# Altium footprint library 610 0xx 243 021.PcbLib: 17 footprints (part 1 of 2)
Each footprint in its own frame and in the unit in brackets; x right, y up, seen from the top. Pads: shape width x height; smd on the part's side, far side on the other; paste and mask are expansions set on the pad; w line width, h text height; cw(c..) or ccw(c..) is an arc to the next point about the centre after c.
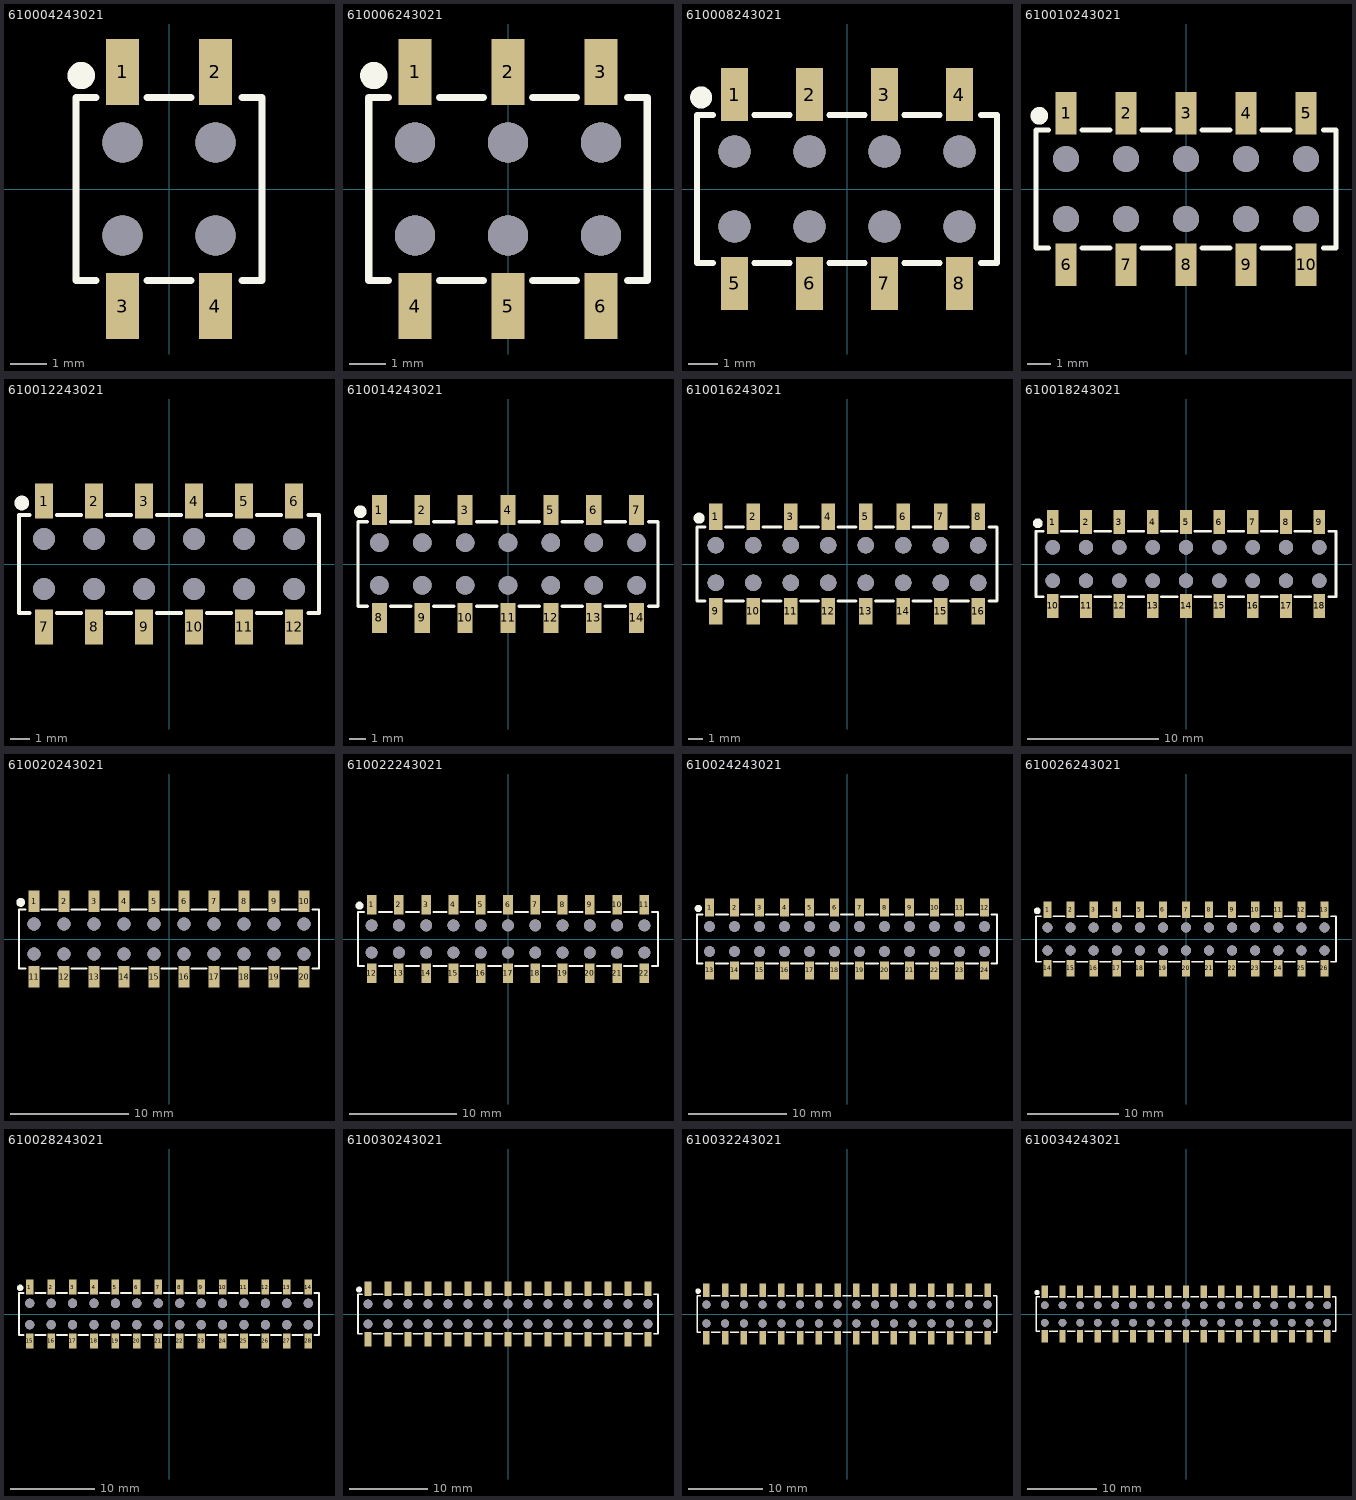
[diagram p0: the footprints below, top view; thin cyan lines are the x and y axes]

## 610004243021 [mm] "04p dual row straight 3,7mm height"
height 3.7
pads (8):
  rect 0.9x1.8 smd: 1(-1.27,3.2) 2(1.27,3.2) 3(-1.27,-3.2) 4(1.27,-3.2)
  round 1.1 hole 1.1 unplated: ""(-1.27,-1.27) ""(-1.27,1.27) ""(1.27,-1.27) ""(1.27,1.27)
Top Overlay:
  circle w0.5: c-2.4,3.1 r0.122
  lines w0.2: -2,-2.5 -2.54,-2.5 -2.54,2.5 -2,2.5 ; -0.6,-2.5 0.6,-2.5 ; -0.6,2.5 0.6,2.5 ; 2,-2.5 2.54,-2.5 2.54,2.5 2,2.5
3D body "610004243021.stp": height 3.73, standoff 0.03, extent -2.54,-3.563 2.54,3.643

## 610006243021 [mm] "06p dual row straight 3,7mm height"
height 3.7
pads (12):
  rect 0.9x1.8 smd: 1(-2.54,3.2) 2(0,3.2) 3(2.54,3.2) 4(-2.54,-3.2) 5(0,-3.2) 6(2.54,-3.2)
  round 1.1 hole 1.1 unplated: ""(-2.54,-1.27) ""(-2.54,1.27) ""(0,-1.27) ""(0,1.27) ""(2.54,-1.27) ""(2.54,1.27)
Top Overlay:
  circle w0.5: c-3.67,3.1 r0.122
  lines w0.2: -3.27,-2.5 -3.81,-2.5 -3.81,2.5 -3.27,2.5 ; -1.87,-2.5 -0.67,-2.5 ; -1.87,2.5 -0.67,2.5 ; 0.67,-2.5 1.87,-2.5 ; 0.67,2.5 1.87,2.5 ; 3.27,-2.5 3.81,-2.5 3.81,2.5 3.27,2.5
3D body "610006243021.stp": height 3.73, standoff 0.03, extent -3.81,-3.603 3.81,3.603

## 610008243021 [mm] "08p dual row straight 3,7mm height"
height 3.7
pads (16):
  rect 0.9x1.8 smd: 1(-3.81,3.2) 2(-1.27,3.2) 3(1.27,3.2) 4(3.81,3.2) 5(-3.81,-3.2) 6(-1.27,-3.2) 7(1.27,-3.2) 8(3.81,-3.2)
  round 1.1 hole 1.1 unplated: ""(-3.81,-1.27) ""(-3.81,1.27) ""(-1.27,-1.27) ""(-1.27,1.27) ""(1.27,-1.27) ""(1.27,1.27) ""(3.81,-1.27) ""(3.81,1.27)
Top Overlay:
  circle w0.5: c-4.94,3.1 r0.122
  lines w0.2: -4.54,-2.5 -5.08,-2.5 -5.08,2.5 -4.54,2.5 ; -3.14,-2.5 -1.94,-2.5 ; -3.14,2.5 -1.94,2.5 ; -0.6,-2.5 0.6,-2.5 ; -0.6,2.5 0.6,2.5 ; 1.94,-2.5 3.14,-2.5 ; 1.94,2.5 3.14,2.5 ; 4.54,-2.5 5.08,-2.5 5.08,2.5 4.54,2.5
3D body "610008243021.stp": height 3.73, standoff 0.03, extent -5.08,-3.603 5.08,3.603

## 610010243021 [mm] "10p dual row straight 3,7mm height"
height 3.7
pads (20):
  rect 0.9x1.8 smd: 1(-5.08,3.2) 2(-2.54,3.2) 3(0,3.2) 4(2.54,3.2) 5(5.08,3.2) 6(-5.08,-3.2) 7(-2.54,-3.2) 8(0,-3.2) 9(2.54,-3.2) 10(5.08,-3.2)
  round 1.1 hole 1.1 unplated: ""(-5.08,-1.27) ""(-5.08,1.27) ""(-2.54,-1.27) ""(-2.54,1.27) ""(0,-1.27) ""(0,1.27) ""(2.54,-1.27) ""(2.54,1.27) ""(5.08,-1.27) ""(5.08,1.27)
Top Overlay:
  circle w0.5: c-6.21,3.1 r0.122
  lines w0.2: -5.81,-2.5 -6.35,-2.5 -6.35,2.5 -5.81,2.5 ; -4.41,-2.5 -3.21,-2.5 ; -4.41,2.5 -3.21,2.5 ; -1.87,-2.5 -0.67,-2.5 ; -1.87,2.5 -0.67,2.5 ; 0.67,-2.5 1.87,-2.5 ; 0.67,2.5 1.87,2.5 ; 3.21,-2.5 4.41,-2.5 ; 3.21,2.5 4.41,2.5 ; 5.81,-2.5 6.35,-2.5 6.35,2.5 5.81,2.5
3D body "610010243021.stp": height 3.73, standoff 0.03, extent -6.35,-3.603 6.35,3.603

## 610012243021 [mm] "12p dual row straight 3,7mm height"
height 3.7
pads (24):
  rect 0.9x1.8 smd: 1(-6.35,3.2) 2(-3.81,3.2) 3(-1.27,3.2) 4(1.27,3.2) 5(3.81,3.2) 6(6.35,3.2) 7(-6.35,-3.2) 8(-3.81,-3.2) 9(-1.27,-3.2) 10(1.27,-3.2) 11(3.81,-3.2) 12(6.35,-3.2)
  round 1.1 hole 1.1 unplated: ""(-6.35,-1.27) ""(-6.35,1.27) ""(-3.81,-1.27) ""(-3.81,1.27) ""(-1.27,-1.27) ""(-1.27,1.27) ""(1.27,-1.27) ""(1.27,1.27) ""(3.81,-1.27) ""(3.81,1.27) ""(6.35,-1.27) ""(6.35,1.27)
Top Overlay:
  circle w0.5: c-7.48,3.1 r0.122
  lines w0.2: -7.08,-2.5 -7.62,-2.5 -7.62,2.5 -7.08,2.5 ; -5.68,-2.5 -4.48,-2.5 ; -5.68,2.5 -4.48,2.5 ; -3.14,-2.5 -1.94,-2.5 ; -3.14,2.5 -1.94,2.5 ; -0.6,-2.5 0.6,-2.5 ; -0.6,2.5 0.6,2.5 ; 1.94,-2.5 3.14,-2.5 ; 1.94,2.5 3.14,2.5 ; 4.48,-2.5 5.68,-2.5 ; 4.48,2.5 5.68,2.5 ; 7.08,-2.5 7.62,-2.5 7.62,2.5 7.08,2.5
3D body "610012243021.stp": height 3.73, standoff 0.03, extent -7.62,-3.603 7.62,3.603

## 610014243021 [mm] "14p dual row straight 3,7mm height"
height 3.7
pads (28):
  rect 0.9x1.8 smd: 1(-7.62,3.2) 2(-5.08,3.2) 3(-2.54,3.2) 4(0,3.2) 5(2.54,3.2) 6(5.08,3.2) 7(7.62,3.2) 8(-7.62,-3.2) 9(-5.08,-3.2) 10(-2.54,-3.2) 11(0,-3.2) 12(2.54,-3.2) 13(5.08,-3.2) 14(7.62,-3.2)
  round 1.1 hole 1.1 unplated: ""(-7.62,-1.27) ""(-7.62,1.27) ""(-5.08,-1.27) ""(-5.08,1.27) ""(-2.54,-1.27) ""(-2.54,1.27) ""(0,-1.27) ""(0,1.27) ""(2.54,-1.27) ""(2.54,1.27) ""(5.08,-1.27) ""(5.08,1.27) ""(7.62,-1.27) ""(7.62,1.27)
Top Overlay:
  circle w0.5: c-8.75,3.1 r0.122
  lines w0.2: -8.35,-2.5 -8.89,-2.5 -8.89,2.5 -8.35,2.5 ; -6.95,-2.5 -5.75,-2.5 ; -6.95,2.5 -5.75,2.5 ; -4.41,-2.5 -3.21,-2.5 ; -4.41,2.5 -3.21,2.5 ; -1.87,-2.5 -0.67,-2.5 ; -1.87,2.5 -0.67,2.5 ; 0.67,-2.5 1.87,-2.5 ; 0.67,2.5 1.87,2.5 ; 3.21,-2.5 4.41,-2.5 ; 3.21,2.5 4.41,2.5 ; 5.75,-2.5 6.95,-2.5 ; 5.75,2.5 6.95,2.5 ; 8.35,-2.5 8.89,-2.5 8.89,2.5 8.35,2.5
3D body "610014243021.stp": height 3.68, standoff -0.02, extent -8.89,-3.603 8.89,3.603

## 610016243021 [mm] "16p dual row straight 3,7mm height"
height 3.7
pads (32):
  rect 0.9x1.8 smd: 1(-8.89,3.2) 2(-6.35,3.2) 3(-3.81,3.2) 4(-1.27,3.2) 5(1.27,3.2) 6(3.81,3.2) 7(6.35,3.2) 8(8.89,3.2) 9(-8.89,-3.2) 10(-6.35,-3.2) 11(-3.81,-3.2) 12(-1.27,-3.2) 13(1.27,-3.2) 14(3.81,-3.2) 15(6.35,-3.2) 16(8.89,-3.2)
  round 1.1 hole 1.1 unplated: ""(-8.89,-1.27) ""(-8.89,1.27) ""(-6.35,-1.27) ""(-6.35,1.27) ""(-3.81,-1.27) ""(-3.81,1.27) ""(-1.27,-1.27) ""(-1.27,1.27) ""(1.27,-1.27) ""(1.27,1.27) ""(3.81,-1.27) ""(3.81,1.27) ""(6.35,-1.27) ""(6.35,1.27) ""(8.89,-1.27) ""(8.89,1.27)
Top Overlay:
  circle w0.5: c-10.02,3.1 r0.122
  lines w0.2: -9.62,-2.5 -10.16,-2.5 -10.16,2.5 -9.62,2.5 ; -8.22,-2.5 -7.02,-2.5 ; -8.22,2.5 -7.02,2.5 ; -5.68,-2.5 -4.48,-2.5 ; -5.68,2.5 -4.48,2.5 ; -3.14,-2.5 -1.94,-2.5 ; -3.14,2.5 -1.94,2.5 ; -0.6,-2.5 0.6,-2.5 ; -0.6,2.5 0.6,2.5 ; 1.94,-2.5 3.14,-2.5 ; 1.94,2.5 3.14,2.5 ; 4.48,-2.5 5.68,-2.5 ; 4.48,2.5 5.68,2.5 ; 7.02,-2.5 8.22,-2.5 ; 7.02,2.5 8.22,2.5 ; 9.62,-2.5 10.16,-2.5 10.16,2.5 9.62,2.5
3D body "610016243021.stp": height 3.73, standoff 0.03, extent -10.16,-3.603 10.16,3.603

## 610018243021 [mm] "18p dual row straight 3,7mm height"
height 3.7
pads (36):
  rect 0.9x1.8 smd: 1(-10.16,3.2) 2(-7.62,3.2) 3(-5.08,3.2) 4(-2.54,3.2) 5(0,3.2) 6(2.54,3.2) 7(5.08,3.2) 8(7.62,3.2) 9(10.16,3.2) 10(-10.16,-3.2) 11(-7.62,-3.2) 12(-5.08,-3.2) 13(-2.54,-3.2) 14(0,-3.2) 15(2.54,-3.2) 16(5.08,-3.2) 17(7.62,-3.2) 18(10.16,-3.2)
  round 1.1 hole 1.1 unplated: ""(-10.16,-1.27) ""(-10.16,1.27) ""(-7.62,-1.27) ""(-7.62,1.27) ""(-5.08,-1.27) ""(-5.08,1.27) ""(-2.54,-1.27) ""(-2.54,1.27) ""(0,-1.27) ""(0,1.27) ""(2.54,-1.27) ""(2.54,1.27) ""(5.08,-1.27) ""(5.08,1.27) ""(7.62,-1.27) ""(7.62,1.27) ""(10.16,-1.27) ""(10.16,1.27)
Top Overlay:
  circle w0.5: c-11.29,3.1 r0.122
  lines w0.2: -10.89,-2.5 -11.43,-2.5 -11.43,2.5 -10.89,2.5 ; -9.49,-2.5 -8.29,-2.5 ; -9.49,2.5 -8.29,2.5 ; -6.95,-2.5 -5.75,-2.5 ; -6.95,2.5 -5.75,2.5 ; -4.41,-2.5 -3.21,-2.5 ; -4.41,2.5 -3.21,2.5 ; -1.87,-2.5 -0.67,-2.5 ; -1.87,2.5 -0.67,2.5 ; 0.67,-2.5 1.87,-2.5 ; 0.67,2.5 1.87,2.5 ; 3.21,-2.5 4.41,-2.5 ; 3.21,2.5 4.41,2.5 ; 5.75,-2.5 6.95,-2.5 ; 5.75,2.5 6.95,2.5 ; 8.29,-2.5 9.49,-2.5 ; 8.29,2.5 9.49,2.5 ; 10.89,-2.5 11.43,-2.5 11.43,2.5 10.89,2.5
3D body "610018243021.stp": height 3.73, standoff 0.03, extent -11.43,-3.603 11.43,3.603

## 610020243021 [mm] "20p dual row straight 3,7mm height"
height 3.7
pads (40):
  rect 0.9x1.8 smd: 1(-11.43,3.2) 2(-8.89,3.2) 3(-6.35,3.2) 4(-3.81,3.2) 5(-1.27,3.2) 6(1.27,3.2) 7(3.81,3.2) 8(6.35,3.2) 9(8.89,3.2) 10(11.43,3.2) 11(-11.43,-3.2) 12(-8.89,-3.2) 13(-6.35,-3.2) 14(-3.81,-3.2) 15(-1.27,-3.2) 16(1.27,-3.2) 17(3.81,-3.2) 18(6.35,-3.2) 19(8.89,-3.2) 20(11.43,-3.2)
  round 1.1 hole 1.1 unplated: ""(-11.43,-1.27) ""(-11.43,1.27) ""(-8.89,-1.27) ""(-8.89,1.27) ""(-6.35,-1.27) ""(-6.35,1.27) ""(-3.81,-1.27) ""(-3.81,1.27) ""(-1.27,-1.27) ""(-1.27,1.27) ""(1.27,-1.27) ""(1.27,1.27) ""(3.81,-1.27) ""(3.81,1.27) ""(6.35,-1.27) ""(6.35,1.27) ""(8.89,-1.27) ""(8.89,1.27) ""(11.43,-1.27) ""(11.43,1.27)
Top Overlay:
  circle w0.5: c-12.56,3.1 r0.122
  lines w0.2: -12.16,-2.5 -12.7,-2.5 -12.7,2.5 -12.16,2.5 ; -10.76,-2.5 -9.56,-2.5 ; -10.76,2.5 -9.56,2.5 ; -8.22,-2.5 -7.02,-2.5 ; -8.22,2.5 -7.02,2.5 ; -5.68,-2.5 -4.48,-2.5 ; -5.68,2.5 -4.48,2.5 ; -3.14,-2.5 -1.94,-2.5 ; -3.14,2.5 -1.94,2.5 ; -0.6,-2.5 0.6,-2.5 ; -0.6,2.5 0.6,2.5 ; 1.94,-2.5 3.14,-2.5 ; 1.94,2.5 3.14,2.5 ; 4.48,-2.5 5.68,-2.5 ; 4.48,2.5 5.68,2.5 ; 7.02,-2.5 8.22,-2.5 ; 7.02,2.5 8.22,2.5 ; 9.56,-2.5 10.76,-2.5 ; 9.56,2.5 10.76,2.5 ; 12.16,-2.5 12.7,-2.5 12.7,2.5 12.16,2.5
3D body "610020243021.stp": height 3.73, standoff 0.03, extent -12.7,-3.603 12.7,3.603

## 610022243021 [mm] "22p dual row straight 3,7mm height"
height 3.7
pads (44):
  rect 0.9x1.8 smd: 1(-12.7,3.2) 2(-10.16,3.2) 3(-7.62,3.2) 4(-5.08,3.2) 5(-2.54,3.2) 6(0,3.2) 7(2.54,3.2) 8(5.08,3.2) 9(7.62,3.2) 10(10.16,3.2) 11(12.7,3.2) 12(-12.7,-3.2) 13(-10.16,-3.2) 14(-7.62,-3.2) 15(-5.08,-3.2) 16(-2.54,-3.2) 17(0,-3.2) 18(2.54,-3.2) 19(5.08,-3.2) 20(7.62,-3.2) 21(10.16,-3.2) 22(12.7,-3.2)
  round 1.1 hole 1.1 unplated: ""(-12.7,-1.27) ""(-12.7,1.27) ""(-10.16,-1.27) ""(-10.16,1.27) ""(-7.62,-1.27) ""(-7.62,1.27) ""(-5.08,-1.27) ""(-5.08,1.27) ""(-2.54,-1.27) ""(-2.54,1.27) ""(0,-1.27) ""(0,1.27) ""(2.54,-1.27) ""(2.54,1.27) ""(5.08,-1.27) ""(5.08,1.27) ""(7.62,-1.27) ""(7.62,1.27) ""(10.16,-1.27) ""(10.16,1.27) ""(12.7,-1.27) ""(12.7,1.27)
Top Overlay:
  circle w0.5: c-13.83,3.1 r0.122
  lines w0.2: -13.43,-2.5 -13.97,-2.5 -13.97,2.5 -13.43,2.5 ; -12.03,-2.5 -10.83,-2.5 ; -12.03,2.5 -10.83,2.5 ; -9.49,-2.5 -8.29,-2.5 ; -9.49,2.5 -8.29,2.5 ; -6.95,-2.5 -5.75,-2.5 ; -6.95,2.5 -5.75,2.5 ; -4.41,-2.5 -3.21,-2.5 ; -4.41,2.5 -3.21,2.5 ; -1.87,-2.5 -0.67,-2.5 ; -1.87,2.5 -0.67,2.5 ; 0.67,-2.5 1.87,-2.5 ; 0.67,2.5 1.87,2.5 ; 3.21,-2.5 4.41,-2.5 ; 3.21,2.5 4.41,2.5 ; 5.75,-2.5 6.95,-2.5 ; 5.75,2.5 6.95,2.5 ; 8.29,-2.5 9.49,-2.5 ; 8.29,2.5 9.49,2.5 ; 10.83,-2.5 12.03,-2.5 ; 10.83,2.5 12.03,2.5 ; 13.43,-2.5 13.97,-2.5 13.97,2.5 13.43,2.5
3D body "610022243021.stp": height 3.73, standoff 0.03, extent -13.97,-3.603 13.97,3.603

## 610024243021 [mm] "24p dual row straight 3,7mm height"
height 3.7
pads (48):
  rect 0.9x1.8 smd: 1(-13.97,3.2) 2(-11.43,3.2) 3(-8.89,3.2) 4(-6.35,3.2) 5(-3.81,3.2) 6(-1.27,3.2) 7(1.27,3.2) 8(3.81,3.2) 9(6.35,3.2) 10(8.89,3.2) 11(11.43,3.2) 12(13.97,3.2) 13(-13.97,-3.2) 14(-11.43,-3.2) 15(-8.89,-3.2) 16(-6.35,-3.2) 17(-3.81,-3.2) 18(-1.27,-3.2) 19(1.27,-3.2) 20(3.81,-3.2) 21(6.35,-3.2) 22(8.89,-3.2) 23(11.43,-3.2) 24(13.97,-3.2)
  round 1.1 hole 1.1 unplated: ""(-13.97,-1.27) ""(-13.97,1.27) ""(-11.43,-1.27) ""(-11.43,1.27) ""(-8.89,-1.27) ""(-8.89,1.27) ""(-6.35,-1.27) ""(-6.35,1.27) ""(-3.81,-1.27) ""(-3.81,1.27) ""(-1.27,-1.27) ""(-1.27,1.27) ""(1.27,-1.27) ""(1.27,1.27) ""(3.81,-1.27) ""(3.81,1.27) ""(6.35,-1.27) ""(6.35,1.27) ""(8.89,-1.27) ""(8.89,1.27) ""(11.43,-1.27) ""(11.43,1.27) ""(13.97,-1.27) ""(13.97,1.27)
Top Overlay:
  circle w0.5: c-15.1,3.1 r0.122
  lines w0.2: -14.7,-2.5 -15.24,-2.5 -15.24,2.5 -14.7,2.5 ; -13.3,-2.5 -12.1,-2.5 ; -13.3,2.5 -12.1,2.5 ; -10.76,-2.5 -9.56,-2.5 ; -10.76,2.5 -9.56,2.5 ; -8.22,-2.5 -7.02,-2.5 ; -8.22,2.5 -7.02,2.5 ; -5.68,-2.5 -4.48,-2.5 ; -5.68,2.5 -4.48,2.5 ; -3.14,-2.5 -1.94,-2.5 ; -3.14,2.5 -1.94,2.5 ; -0.6,-2.5 0.6,-2.5 ; -0.6,2.5 0.6,2.5 ; 1.94,-2.5 3.14,-2.5 ; 1.94,2.5 3.14,2.5 ; 4.48,-2.5 5.68,-2.5 ; 4.48,2.5 5.68,2.5 ; 7.02,-2.5 8.22,-2.5 ; 7.02,2.5 8.22,2.5 ; 9.56,-2.5 10.76,-2.5 ; 9.56,2.5 10.76,2.5 ; 12.1,-2.5 13.3,-2.5 ; 12.1,2.5 13.3,2.5 ; 14.7,-2.5 15.24,-2.5 15.24,2.5 14.7,2.5
3D body "610024243021.stp": height 3.73, standoff 0.03, extent -15.24,-3.603 15.24,3.603

## 610026243021 [mm] "26p dual row straight 3,7mm height"
height 3.7
pads (52):
  rect 0.9x1.8 smd: 1(-15.24,3.2) 2(-12.7,3.2) 3(-10.16,3.2) 4(-7.62,3.2) 5(-5.08,3.2) 6(-2.54,3.2) 7(0,3.2) 8(2.54,3.2) 9(5.08,3.2) 10(7.62,3.2) 11(10.16,3.2) 12(12.7,3.2) 13(15.24,3.2) 14(-15.24,-3.2) 15(-12.7,-3.2) 16(-10.16,-3.2) 17(-7.62,-3.2) 18(-5.08,-3.2) 19(-2.54,-3.2) 20(0,-3.2) 21(2.54,-3.2) 22(5.08,-3.2) 23(7.62,-3.2) 24(10.16,-3.2) 25(12.7,-3.2) 26(15.24,-3.2)
  round 1.1 hole 1.1 unplated: ""(-15.24,-1.27) ""(-15.24,1.27) ""(-12.7,-1.27) ""(-12.7,1.27) ""(-10.16,-1.27) ""(-10.16,1.27) ""(-7.62,-1.27) ""(-7.62,1.27) ""(-5.08,-1.27) ""(-5.08,1.27) ""(-2.54,-1.27) ""(-2.54,1.27) ""(0,-1.27) ""(0,1.27) ""(2.54,-1.27) ""(2.54,1.27) ""(5.08,-1.27) ""(5.08,1.27) ""(7.62,-1.27) ""(7.62,1.27) ""(10.16,-1.27) ""(10.16,1.27) ""(12.7,-1.27) ""(12.7,1.27) ""(15.24,-1.27) ""(15.24,1.27)
Top Overlay:
  circle w0.5: c-16.37,3.1 r0.122
  lines w0.2: -15.97,-2.5 -16.51,-2.5 -16.51,2.5 -15.97,2.5 ; -14.57,-2.5 -13.37,-2.5 ; -14.57,2.5 -13.37,2.5 ; -12.03,-2.5 -10.83,-2.5 ; -12.03,2.5 -10.83,2.5 ; -9.49,-2.5 -8.29,-2.5 ; -9.49,2.5 -8.29,2.5 ; -6.95,-2.5 -5.75,-2.5 ; -6.95,2.5 -5.75,2.5 ; -4.41,-2.5 -3.21,-2.5 ; -4.41,2.5 -3.21,2.5 ; -1.87,-2.5 -0.67,-2.5 ; -1.87,2.5 -0.67,2.5 ; 0.67,-2.5 1.87,-2.5 ; 0.67,2.5 1.87,2.5 ; 3.21,-2.5 4.41,-2.5 ; 3.21,2.5 4.41,2.5 ; 5.75,-2.5 6.95,-2.5 ; 5.75,2.5 6.95,2.5 ; 8.29,-2.5 9.49,-2.5 ; 8.29,2.5 9.49,2.5 ; 10.83,-2.5 12.03,-2.5 ; 10.83,2.5 12.03,2.5 ; 13.37,-2.5 14.57,-2.5 ; 13.37,2.5 14.57,2.5 ; 15.97,-2.5 16.51,-2.5 16.51,2.5 15.97,2.5
3D body "610026243021.stp": height 3.73, standoff 0.03, extent -16.51,-3.603 16.51,3.603

## 610028243021 [mm] "28p dual row straight 3,7mm height"
height 3.7
pads (56):
  rect 0.9x1.8 smd: 1(-16.51,3.2) 2(-13.97,3.2) 3(-11.43,3.2) 4(-8.89,3.2) 5(-6.35,3.2) 6(-3.81,3.2) 7(-1.27,3.2) 8(1.27,3.2) 9(3.81,3.2) 10(6.35,3.2) 11(8.89,3.2) 12(11.43,3.2) 13(13.97,3.2) 14(16.51,3.2) 15(-16.51,-3.2) 16(-13.97,-3.2) 17(-11.43,-3.2) 18(-8.89,-3.2) 19(-6.35,-3.2) 20(-3.81,-3.2) 21(-1.27,-3.2) 22(1.27,-3.2) 23(3.81,-3.2) 24(6.35,-3.2) 25(8.89,-3.2) 26(11.43,-3.2) 27(13.97,-3.2) 28(16.51,-3.2)
  round 1.1 hole 1.1 unplated: ""(-16.51,-1.27) ""(-16.51,1.27) ""(-13.97,-1.27) ""(-13.97,1.27) ""(-11.43,-1.27) ""(-11.43,1.27) ""(-8.89,-1.27) ""(-8.89,1.27) ""(-6.35,-1.27) ""(-6.35,1.27) ""(-3.81,-1.27) ""(-3.81,1.27) ""(-1.27,-1.27) ""(-1.27,1.27) ""(1.27,-1.27) ""(1.27,1.27) ""(3.81,-1.27) ""(3.81,1.27) ""(6.35,-1.27) ""(6.35,1.27) ""(8.89,-1.27) ""(8.89,1.27) ""(11.43,-1.27) ""(11.43,1.27) ""(13.97,-1.27) ""(13.97,1.27) ""(16.51,-1.27) ""(16.51,1.27)
Top Overlay:
  circle w0.5: c-17.64,3.1 r0.122
  lines w0.2: -17.24,-2.5 -17.78,-2.5 -17.78,2.5 -17.24,2.5 ; -15.84,-2.5 -14.64,-2.5 ; -15.84,2.5 -14.64,2.5 ; -13.3,-2.5 -12.1,-2.5 ; -13.3,2.5 -12.1,2.5 ; -10.76,-2.5 -9.56,-2.5 ; -10.76,2.5 -9.56,2.5 ; -8.22,-2.5 -7.02,-2.5 ; -8.22,2.5 -7.02,2.5 ; -5.68,-2.5 -4.48,-2.5 ; -5.68,2.5 -4.48,2.5 ; -3.14,-2.5 -1.94,-2.5 ; -3.14,2.5 -1.94,2.5 ; -0.6,-2.5 0.6,-2.5 ; -0.6,2.5 0.6,2.5 ; 1.94,-2.5 3.14,-2.5 ; 1.94,2.5 3.14,2.5 ; 4.48,-2.5 5.68,-2.5 ; 4.48,2.5 5.68,2.5 ; 7.02,-2.5 8.22,-2.5 ; 7.02,2.5 8.22,2.5 ; 9.56,-2.5 10.76,-2.5 ; 9.56,2.5 10.76,2.5 ; 12.1,-2.5 13.3,-2.5 ; 12.1,2.5 13.3,2.5 ; 14.64,-2.5 15.84,-2.5 ; 14.64,2.5 15.84,2.5 ; 17.24,-2.5 17.78,-2.5 17.78,2.5 17.24,2.5
3D body "610028243021.stp": height 3.68, standoff -0.02, extent -17.78,-3.603 17.78,3.603

## 610030243021 [mm] "30p dual row straight 3,7mm height"
height 3.7
pads (60):
  rect 0.9x1.8 smd: 1(-17.78,3.2) 2(-15.24,3.2) 3(-12.7,3.2) 4(-10.16,3.2) 5(-7.62,3.2) 6(-5.08,3.2) 7(-2.54,3.2) 8(0,3.2) 9(2.54,3.2) 10(5.08,3.2) 11(7.62,3.2) 12(10.16,3.2) 13(12.7,3.2) 14(15.24,3.2) 15(17.78,3.2) 16(-17.78,-3.2) 17(-15.24,-3.2) 18(-12.7,-3.2) 19(-10.16,-3.2) 20(-7.62,-3.2) 21(-5.08,-3.2) 22(-2.54,-3.2) 23(0,-3.2) 24(2.54,-3.2) 25(5.08,-3.2) 26(7.62,-3.2) 27(10.16,-3.2) 28(12.7,-3.2) 29(15.24,-3.2) 30(17.78,-3.2)
  round 1.1 hole 1.1 unplated: ""(-17.78,-1.27) ""(-17.78,1.27) ""(-15.24,-1.27) ""(-15.24,1.27) ""(-12.7,-1.27) ""(-12.7,1.27) ""(-10.16,-1.27) ""(-10.16,1.27) ""(-7.62,-1.27) ""(-7.62,1.27) ""(-5.08,-1.27) ""(-5.08,1.27) ""(-2.54,-1.27) ""(-2.54,1.27) ""(0,-1.27) ""(0,1.27) ""(2.54,-1.27) ""(2.54,1.27) ""(5.08,-1.27) ""(5.08,1.27) ""(7.62,-1.27) ""(7.62,1.27) ""(10.16,-1.27) ""(10.16,1.27) ""(12.7,-1.27) ""(12.7,1.27) ""(15.24,-1.27) ""(15.24,1.27) ""(17.78,-1.27) ""(17.78,1.27)
Top Overlay:
  circle w0.5: c-18.91,3.1 r0.122
  lines w0.2: -18.51,-2.5 -19.05,-2.5 -19.05,2.5 -18.51,2.5 ; -17.11,-2.5 -15.91,-2.5 ; -17.11,2.5 -15.91,2.5 ; -14.57,-2.5 -13.37,-2.5 ; -14.57,2.5 -13.37,2.5 ; -12.03,-2.5 -10.83,-2.5 ; -12.03,2.5 -10.83,2.5 ; -9.49,-2.5 -8.29,-2.5 ; -9.49,2.5 -8.29,2.5 ; -6.95,-2.5 -5.75,-2.5 ; -6.95,2.5 -5.75,2.5 ; -4.41,-2.5 -3.21,-2.5 ; -4.41,2.5 -3.21,2.5 ; -1.87,-2.5 -0.67,-2.5 ; -1.87,2.5 -0.67,2.5 ; 0.67,-2.5 1.87,-2.5 ; 0.67,2.5 1.87,2.5 ; 3.21,-2.5 4.41,-2.5 ; 3.21,2.5 4.41,2.5 ; 5.75,-2.5 6.95,-2.5 ; 5.75,2.5 6.95,2.5 ; 8.29,-2.5 9.49,-2.5 ; 8.29,2.5 9.49,2.5 ; 10.83,-2.5 12.03,-2.5 ; 10.83,2.5 12.03,2.5 ; 13.37,-2.5 14.57,-2.5 ; 13.37,2.5 14.57,2.5 ; 15.91,-2.5 17.11,-2.5 ; 15.91,2.5 17.11,2.5 ; 18.51,-2.5 19.05,-2.5 19.05,2.5 18.51,2.5
3D body "610030243021.stp": height 3.68, standoff -0.02, extent -19.05,-3.603 19.05,3.603

## 610032243021 [mm] "32p dual row straight 3,7mm height"
height 3.7
pads (64):
  rect 0.9x1.8 smd: 1(-19.05,3.2) 2(-16.51,3.2) 3(-13.97,3.2) 4(-11.43,3.2) 5(-8.89,3.2) 6(-6.35,3.2) 7(-3.81,3.2) 8(-1.27,3.2) 9(1.27,3.2) 10(3.81,3.2) 11(6.35,3.2) 12(8.89,3.2) 13(11.43,3.2) 14(13.97,3.2) 15(16.51,3.2) 16(19.05,3.2) 17(-19.05,-3.2) 18(-16.51,-3.2) 19(-13.97,-3.2) 20(-11.43,-3.2) 21(-8.89,-3.2) 22(-6.35,-3.2) 23(-3.81,-3.2) 24(-1.27,-3.2) 25(1.27,-3.2) 26(3.81,-3.2) 27(6.35,-3.2) 28(8.89,-3.2) 29(11.43,-3.2) 30(13.97,-3.2) 31(16.51,-3.2) 32(19.05,-3.2)
  round 1.1 hole 1.1 unplated: ""(-19.05,-1.27) ""(-19.05,1.27) ""(-16.51,-1.27) ""(-16.51,1.27) ""(-13.97,-1.27) ""(-13.97,1.27) ""(-11.43,-1.27) ""(-11.43,1.27) ""(-8.89,-1.27) ""(-8.89,1.27) ""(-6.35,-1.27) ""(-6.35,1.27) ""(-3.81,-1.27) ""(-3.81,1.27) ""(-1.27,-1.27) ""(-1.27,1.27) ""(1.27,-1.27) ""(1.27,1.27) ""(3.81,-1.27) ""(3.81,1.27) ""(6.35,-1.27) ""(6.35,1.27) ""(8.89,-1.27) ""(8.89,1.27) ""(11.43,-1.27) ""(11.43,1.27) ""(13.97,-1.27) ""(13.97,1.27) ""(16.51,-1.27) ""(16.51,1.27) ""(19.05,-1.27) ""(19.05,1.27)
Top Overlay:
  circle w0.5: c-20.18,3.1 r0.122
  lines w0.2: -19.78,-2.5 -20.32,-2.5 -20.32,2.5 -19.78,2.5 ; -18.38,-2.5 -17.18,-2.5 ; -18.38,2.5 -17.18,2.5 ; -15.84,-2.5 -14.64,-2.5 ; -15.84,2.5 -14.64,2.5 ; -13.3,-2.5 -12.1,-2.5 ; -13.3,2.5 -12.1,2.5 ; -10.76,-2.5 -9.56,-2.5 ; -10.76,2.5 -9.56,2.5 ; -8.22,-2.5 -7.02,-2.5 ; -8.22,2.5 -7.02,2.5 ; -5.68,-2.5 -4.48,-2.5 ; -5.68,2.5 -4.48,2.5 ; -3.14,-2.5 -1.94,-2.5 ; -3.14,2.5 -1.94,2.5 ; -0.6,-2.5 0.6,-2.5 ; -0.6,2.5 0.6,2.5 ; 1.94,-2.5 3.14,-2.5 ; 1.94,2.5 3.14,2.5 ; 4.48,-2.5 5.68,-2.5 ; 4.48,2.5 5.68,2.5 ; 7.02,-2.5 8.22,-2.5 ; 7.02,2.5 8.22,2.5 ; 9.56,-2.5 10.76,-2.5 ; 9.56,2.5 10.76,2.5 ; 12.1,-2.5 13.3,-2.5 ; 12.1,2.5 13.3,2.5 ; 14.64,-2.5 15.84,-2.5 ; 14.64,2.5 15.84,2.5 ; 17.18,-2.5 18.38,-2.5 ; 17.18,2.5 18.38,2.5 ; 19.78,-2.5 20.32,-2.5 20.32,2.5 19.78,2.5
3D body "610032243021.stp": height 3.73, standoff 0.03, extent -20.32,-3.603 20.32,3.603

## 610034243021 [mm] "34p dual row straight 3,7mm height"
height 3.7
pads (68):
  rect 0.9x1.8 smd: 1(-20.32,3.2) 2(-17.78,3.2) 3(-15.24,3.2) 4(-12.7,3.2) 5(-10.16,3.2) 6(-7.62,3.2) 7(-5.08,3.2) 8(-2.54,3.2) 9(0,3.2) 10(2.54,3.2) 11(5.08,3.2) 12(7.62,3.2) 13(10.16,3.2) 14(12.7,3.2) 15(15.24,3.2) 16(17.78,3.2) 17(20.32,3.2) 18(-20.32,-3.2) 19(-17.78,-3.2) 20(-15.24,-3.2) 21(-12.7,-3.2) 22(-10.16,-3.2) 23(-7.62,-3.2) 24(-5.08,-3.2) 25(-2.54,-3.2) 26(0,-3.2) 27(2.54,-3.2) 28(5.08,-3.2) 29(7.62,-3.2) 30(10.16,-3.2) 31(12.7,-3.2) 32(15.24,-3.2) 33(17.78,-3.2) 34(20.32,-3.2)
  round 1.1 hole 1.1 unplated: ""(-20.32,-1.27) ""(-20.32,1.27) ""(-17.78,-1.27) ""(-17.78,1.27) ""(-15.24,-1.27) ""(-15.24,1.27) ""(-12.7,-1.27) ""(-12.7,1.27) ""(-10.16,-1.27) ""(-10.16,1.27) ""(-7.62,-1.27) ""(-7.62,1.27) ""(-5.08,-1.27) ""(-5.08,1.27) ""(-2.54,-1.27) ""(-2.54,1.27) ""(0,-1.27) ""(0,1.27) ""(2.54,-1.27) ""(2.54,1.27) ""(5.08,-1.27) ""(5.08,1.27) ""(7.62,-1.27) ""(7.62,1.27) ""(10.16,-1.27) ""(10.16,1.27) ""(12.7,-1.27) ""(12.7,1.27) ""(15.24,-1.27) ""(15.24,1.27) ""(17.78,-1.27) ""(17.78,1.27) ""(20.32,-1.27) ""(20.32,1.27)
Top Overlay:
  circle w0.5: c-21.45,3.1 r0.122
  lines w0.2: -21.05,-2.5 -21.59,-2.5 -21.59,2.5 -21.05,2.5 ; -19.65,-2.5 -18.45,-2.5 ; -19.65,2.5 -18.45,2.5 ; -17.11,-2.5 -15.91,-2.5 ; -17.11,2.5 -15.91,2.5 ; -14.57,-2.5 -13.37,-2.5 ; -14.57,2.5 -13.37,2.5 ; -12.03,-2.5 -10.83,-2.5 ; -12.03,2.5 -10.83,2.5 ; -9.49,-2.5 -8.29,-2.5 ; -9.49,2.5 -8.29,2.5 ; -6.95,-2.5 -5.75,-2.5 ; -6.95,2.5 -5.75,2.5 ; -4.41,-2.5 -3.21,-2.5 ; -4.41,2.5 -3.21,2.5 ; -1.87,-2.5 -0.67,-2.5 ; -1.87,2.5 -0.67,2.5 ; 0.67,-2.5 1.87,-2.5 ; 0.67,2.5 1.87,2.5 ; 3.21,-2.5 4.41,-2.5 ; 3.21,2.5 4.41,2.5 ; 5.75,-2.5 6.95,-2.5 ; 5.75,2.5 6.95,2.5 ; 8.29,-2.5 9.49,-2.5 ; 8.29,2.5 9.49,2.5 ; 10.83,-2.5 12.03,-2.5 ; 10.83,2.5 12.03,2.5 ; 13.37,-2.5 14.57,-2.5 ; 13.37,2.5 14.57,2.5 ; 15.91,-2.5 17.11,-2.5 ; 15.91,2.5 17.11,2.5 ; 18.45,-2.5 19.65,-2.5 ; 18.45,2.5 19.65,2.5 ; 21.05,-2.5 21.59,-2.5 21.59,2.5 21.05,2.5
3D body "610034243021.stp": height 3.73, standoff 0.03, extent -21.59,-3.603 21.59,3.603